# EAGLE library part CONNECTOR-RJ25 (library SPCoast)
AMP connector
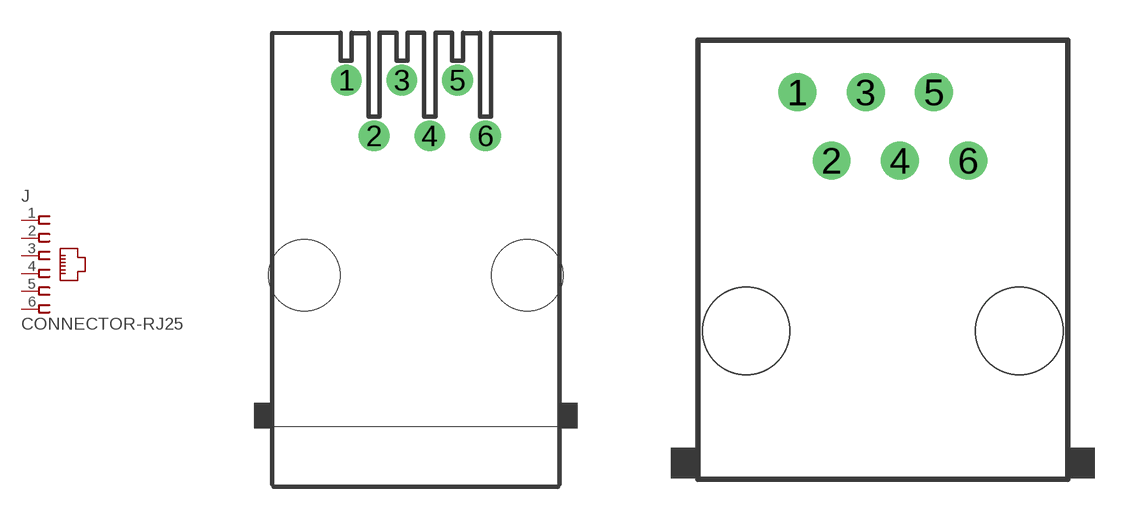
[diagram p2: symbol with the pads of RJ25-PANEL; footprints RJ25-PANEL, RJ25]

Designator prefix J

## CONNECTOR-RJ25AMP (AMP: 520250-3; OPL: none)  [RJ25-PANEL]
1  1  pas
2  2  pas
3  3  pas
4  4  pas
5  5  pas
6  6  pas

## CONNECTOR-RJ25CORCOM  [RJ25]
Pads as for RJ25-PANEL

## CONNECTOR-RJ25TOP  [RJ25-TOP]
Pads as for RJ25-PANEL

## CONNECTOR-RJ25-43860-2-MOLEX  [RJ25-INVERTED]
Pads as for RJ25-PANEL

## Footprint RJ25-PANEL (pad centres in mm)
Modular Jack with Panel Stops
drill 0.889: 1 -3.175,8.89; 2 -1.905,6.35; 3 -0.635,8.89; 4 0.635,6.35; 5 1.905,8.89; 6 3.175,6.35
hole 3.251 at -5.08,0
hole 3.251 at 5.08,0

## Footprint RJ25 (pad centres in mm)
RJ11 Low Profile No Shield For all RJ11 N and Z Series Models Source: www.tycoelectronics.com .. ENG_DS_1654001_1099_RJ_L_0507.pdf
drill 0.9 pad 1.4: 1 -3.175,8.89; 2 -1.905,6.35; 3 -0.635,8.89; 4 0.635,6.35; 5 1.905,8.89; 6 3.175,6.35
hole 3.251 at -5.08,0
hole 3.251 at 5.08,0

## Footprint RJ25-TOP (pad centres in mm)
drill 0.9 pad 1.4: 1 -3.175,8.89; 2 -1.905,6.35; 3 -0.635,8.89; 4 0.635,6.35; 5 1.905,8.89; 6 3.175,6.35
hole 3.251 at -5.08,0
hole 3.251 at 5.08,0

## Footprint RJ25-INVERTED (pad centres in mm)
drill 0.9 pad 1.4: 1 2.54,4.318; 2 1.524,2.54; 3 0.508,4.318; 4 -0.508,2.54; 5 -1.524,4.318; 6 -2.54,2.54
hole 3.251 at -6.35,0
hole 3.251 at 6.35,0